# EAGLE library part A1250WR (library hugo)
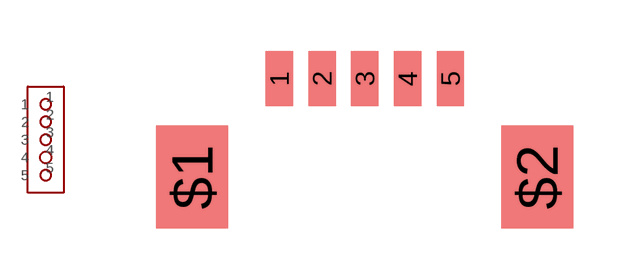
[diagram p2: symbol with the pads of A1250WR; footprint A1250WR]

Designator prefix -

## A1250WR  [A1250WR]
1  1
2  2
3  3
4  4
5  5
$1  GND  pwr
$2  GND  pwr

## Footprint A1250WR (pad centres in mm)
smd 0.8 x 1.6: 1 -2.46,2.54; 2 -1.21,2.54; 3 0.04,2.54; 4 1.29,2.54; 5 2.54,2.54
smd 2.1 x 3: $1 -5.01,-0.34; $2 5.08,-0.34